# EAGLE library part CONNECTOR82 (library conn4)
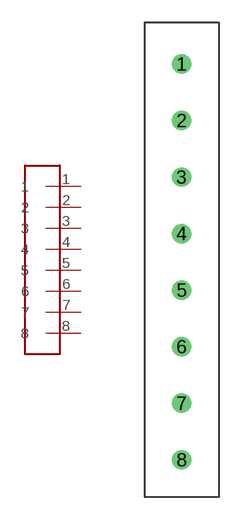
[diagram p1: symbol with the pads of CONNECTOR8; footprint CONNECTOR8]

Designator prefix -

## CONNECTOR82  [CONNECTOR8]
1  1
2  2
3  3
4  4
5  5
6  6
7  7
8  8

## Footprint CONNECTOR8 (pad centres in mm)
drill 0.8: 1 0.5,-3.81; 2 0.5,-7.62; 3 0.5,-11.43; 4 0.5,-15.24; 5 0.5,-19.05; 6 0.5,-22.86; 7 0.5,-26.67; 8 0.5,-30.48